# Altium footprint library SOP65P775X200-14N.PcbLib: 1 footprints
Each footprint in its own frame and in the unit in brackets; x right, y up, seen from the top. Pads: shape width x height; smd on the part's side, far side on the other; paste and mask are expansions set on the pad; w line width, h text height; cw(c..) or ccw(c..) is an arc to the next point about the centre after c.
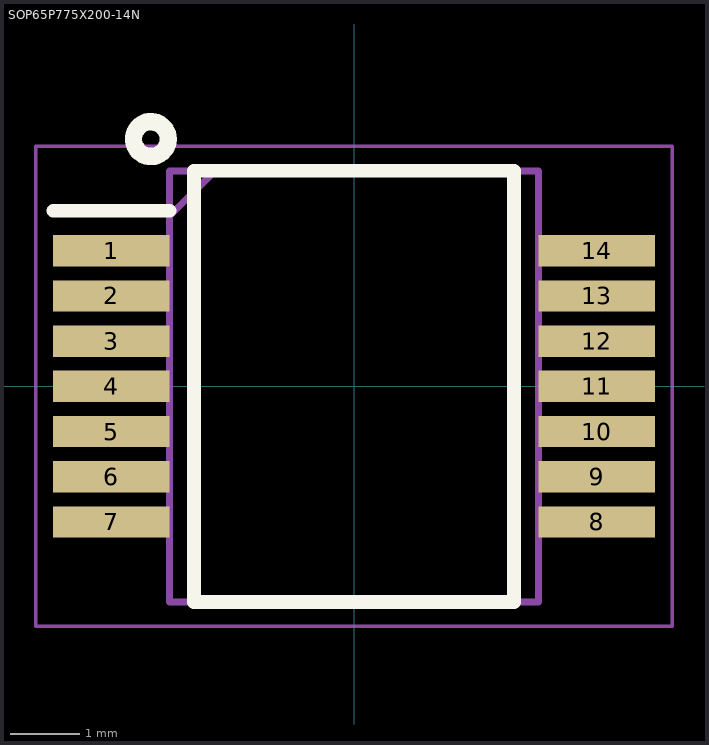
[diagram p0: the footprint, top view; thin cyan lines are the x and y axes]

## SOP65P775X200-14N [mm]
pads (14):
  rect 1.675x0.45 smd: 1(-3.488,1.95) 2(-3.488,1.3) 3(-3.488,0.65) 4(-3.488,0) 5(-3.488,-0.65) 6(-3.488,-1.3) 7(-3.488,-1.95) 8(3.488,-1.95) 9(3.488,-1.3) 10(3.488,-0.65) 11(3.488,0) 12(3.488,0.65) 13(3.488,1.3) 14(3.488,1.95)
Top Overlay:
  circle w0.25: c-2.921,3.556 r0.25
  lines w0.2: -4.325,2.525 -2.65,2.525 ; -2.3,-3.1 -2.3,3.1 2.3,3.1 2.3,-3.1 -2.3,-3.1
Mechanical 13:
  lines w0.1: -2.65,2.45 -2,3.1 ; -2.65,-3.1 -2.65,3.1 2.65,3.1 2.65,-3.1 -2.65,-3.1
Mechanical 15:
  lines w0.05: -4.575,-3.45 -4.575,3.45 4.575,3.45 4.575,-3.45 -4.575,-3.45
3D body "74HCT14DB,118.stp": height 2, standoff 0, extent -3.875,-3.1 3.875,3.1